# EAGLE library part IC_LTC1734 (library psas_eagle_library)
LTC1734 Li - Ion Battery Controller
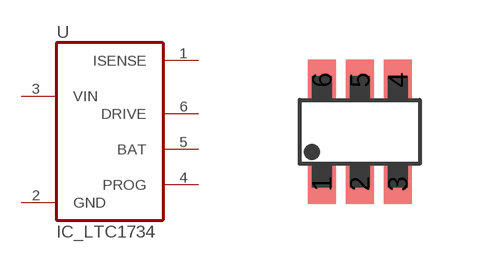
[diagram p13: symbol with the pads of SOT23-6; footprint SOT23-6]

Designator prefix U

## IC_LTC1734  [SOT23-6]
1  ISENSE  pas
2  GND  pwr
3  VIN  pas
4  PROG  pas
5  BAT  pas
6  DRIVE  pas

## Footprint SOT23-6 (pad centres in mm)
smd 0.7 x 1: 1 -0.95,-1.3; 2 0,-1.3; 3 0.95,-1.3; 4 0.95,1.3; 5 0,1.3; 6 -0.95,1.3